# EAGLE library part LPC1104 (library seb)
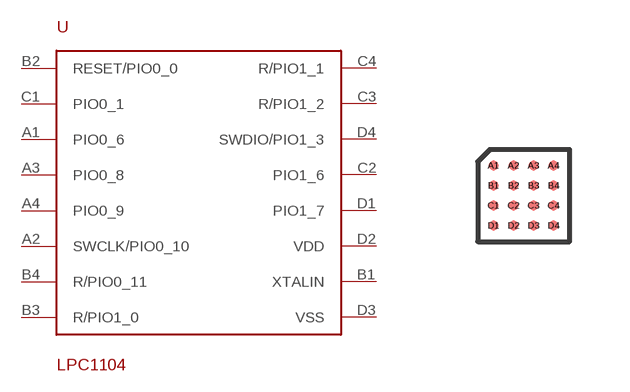
[diagram p22: symbol with the pads of WLCSP16; footprint WLCSP16]

Designator prefix -

## LPC1104  [WLCSP16]
A1  PIO0_6
A2  SWCLK/PIO0_10
A3  PIO0_8
A4  PIO0_9
B1  XTALIN
B2  RESET/PIO0_0
B3  R/PIO1_0
B4  R/PIO0_11
C1  PIO0_1
C2  PIO1_6
C3  R/PIO1_2
C4  R/PIO1_1
D1  PIO1_7
D2  VDD
D3  VSS
D4  SWDIO/PIO1_3

## Footprint WLCSP16 (pad centres in mm)
smd 0.25 x 0.25: A1 -0.75,0.75; A2 -0.25,0.75; A3 0.25,0.75; A4 0.75,0.75; B1 -0.75,0.25; B2 -0.25,0.25; B3 0.25,0.25; B4 0.75,0.25; C1 -0.75,-0.25; C2 -0.25,-0.25; C3 0.25,-0.25; C4 0.75,-0.25; D1 -0.75,-0.75; D2 -0.25,-0.75; D3 0.25,-0.75; D4 0.75,-0.75